# Altium footprint library 20-VQFN.PcbLib: 1 footprints
Each footprint in its own frame and in the unit in brackets; x right, y up, seen from the top. Pads: shape width x height; smd on the part's side, far side on the other; paste and mask are expansions set on the pad; w line width, h text height; cw(c..) or ccw(c..) is an arc to the next point about the centre after c.
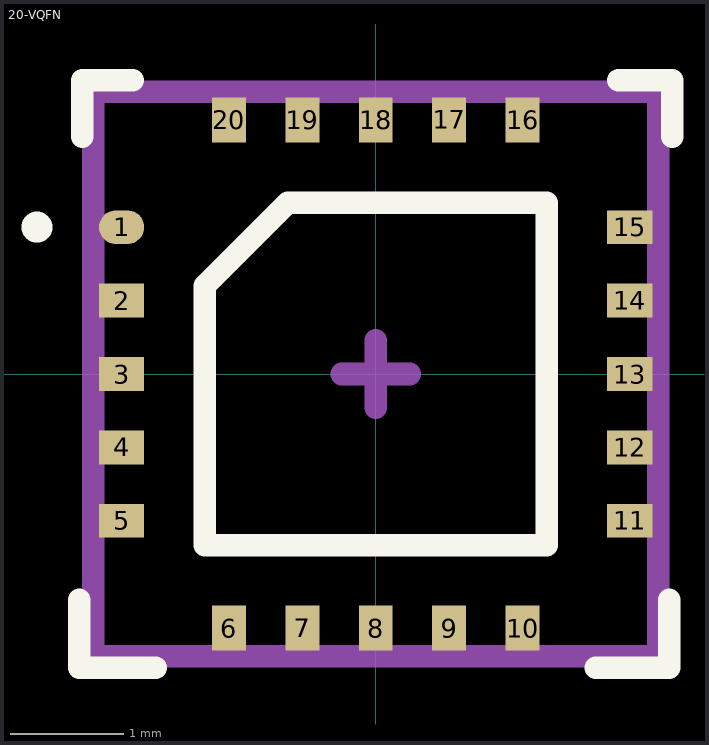
[diagram p0: the footprint, top view; thin cyan lines are the x and y axes]

## 20-VQFN [mm]
pads (20):
  oval 0.4x0.3 smd mask+0.051: 1(-2.25,1.3)
  rect 0.4x0.3 smd mask+0.051: 2(-2.25,0.65) 3(-2.25,0) 4(-2.25,-0.65) 5(-2.25,-1.3) 11(2.25,-1.3) 12(2.25,-0.65) 13(2.25,0) 14(2.25,0.65) 15(2.25,1.3)
  rect 0.3x0.4 smd mask+0.051: 6(-1.3,-2.25) 7(-0.65,-2.25) 8(0,-2.25) 9(0.65,-2.25) 10(1.3,-2.25) 16(1.3,2.25) 17(0.65,2.25) 18(0,2.25) 19(-0.65,2.25) 20(-1.3,2.25)
Top Overlay:
  circle w0.254: c-3,1.3 r0.01
  lines w0.2: -2.625,-2 -2.625,-2.6 -1.95,-2.6 ; -2.6,2.1 -2.6,2.6 -2.15,2.6 ; 1.95,-2.6 2.6,-2.6 2.6,-2 ; 2.15,2.6 2.625,2.6 2.625,2.1 ; -1.515,-1.515 -1.515,0.78 -0.78,1.515 1.515,1.515 1.515,-1.515 -1.515,-1.515
Mechanical 13:
  lines w0.2: -2.5,-2.5 2.5,-2.5 2.5,2.5 -2.5,2.5 -2.5,-2.5
Mechanical 15:
  lines w0.2: -0.3,0 0,0 ; 0,-0.3 0,0 ; 0,0.3 0,0 ; 0.3,0 0,0
3D body "20-VQFN.step": height 0.99, standoff 0, extent -2.502,-2.502 2.502,2.502